# EAGLE library part LM75BD (library sapog_reference_hardware)
SENSOR TEMPERATURE I2C 8TSSOP
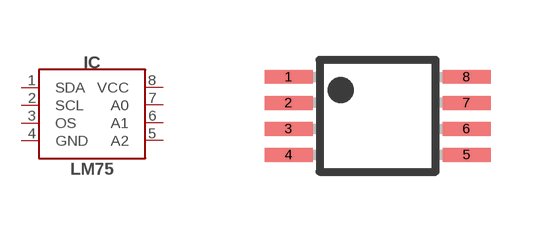
[diagram p9: symbol with the pads of TSSOP8; footprint TSSOP8]

Designator prefix IC

## LM75BD-TSSOP8 (DIGIKEY#: 568-4768-1-ND; MANF: NXP Semiconductors; MANF#: LM75BDP,118)  [TSSOP8]
1  SDA
2  SCL
3  OS
4  GND
5  A2
6  A1
7  A0
8  VCC

## Footprint TSSOP8 (pad centres in mm)
Plastic Small Outline
smd 1.2 x 0.35: 1 -2.225,0.975; 2 -2.225,0.325; 3 -2.225,-0.325; 4 -2.225,-0.975; 5 2.225,-0.975; 6 2.225,-0.325; 7 2.225,0.325; 8 2.225,0.975